# Altium footprint library PCBLib.PcbLib: 5 footprints
Each footprint in its own frame and in the unit in brackets; x right, y up, seen from the top. Pads: shape width x height; smd on the part's side, far side on the other; paste and mask are expansions set on the pad; w line width, h text height; cw(c..) or ccw(c..) is an arc to the next point about the centre after c.
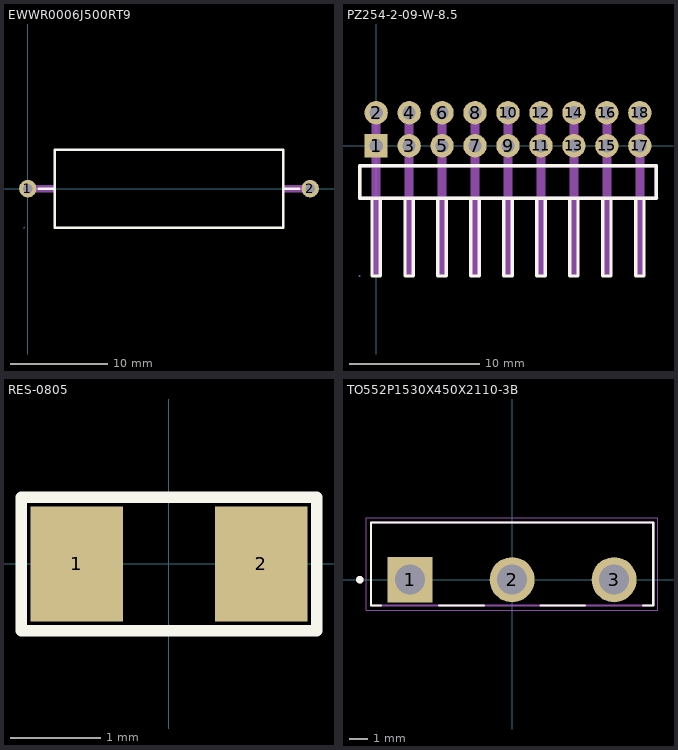
[diagram p0: the footprints below, top view; thin cyan lines are the x and y axes]

## 0447690401 [mm]

## EWWR0006J500RT9 [mm]
pads (2):
  round 1.8 hole 1 paste+0 mask+0.051: 1(0,0) 2(29,0)
Top Overlay:
  lines w0.254: 1.131,0 2.75,0 ; 2.75,4 2.75,-4 26.25,-4 26.25,4 2.785,4 ; 26.25,0 27.869,0
Mechanical 15:
  region: -0.315,-4 -0.316,-3.976 -0.351,-3.942 -0.399,-3.942 -0.434,-3.976 -0.435,-4 -0.434,-4.024 -0.399,-4.058 -0.351,-4.058 -0.316,-4.024 -0.315,-4
  region: 29.375,0 29.375,0.074 29.317,0.211 29.212,0.315 29.074,0.372 28.926,0.372 28.789,0.315 28.684,0.211 28.626,0.074 28.625,0 28.626,-0.074 28.684,-0.211 28.789,-0.315 28.926,-0.372 29.075,-0.372 29.212,-0.315 29.317,-0.211 29.375,-0.074 29.375,0
  region: 0.375,0 0.374,0.074 0.317,0.211 0.211,0.315 0.074,0.372 -0.074,0.372 -0.211,0.315 -0.317,0.211 -0.374,0.074 -0.375,0 -0.374,-0.074 -0.317,-0.211 -0.211,-0.315 -0.074,-0.372 0.074,-0.372 0.212,-0.315 0.317,-0.211 0.374,-0.074 0.375,0
  region: 29.375,0.375 29.375,-0.37 29.38,-0.375 26.245,-0.375 26.245,0.38
  region: -0.375,0.375 -0.375,-0.375 2.755,-0.375 2.755,0.38
  lines w0.051: 2.75,-4 2.75,4 26.25,4 26.25,-4 2.75,-4

## PZ254-2-09-W-8.5 [mm]
pads (18):
  rect 1.778x1.8 hole 1.02 paste+0 mask+0.051: 1(0,0)
  round 1.8 hole 1.02 paste+0 mask+0.051: 2(0,2.54) 3(2.54,0) 4(2.54,2.54) 5(5.08,0) 6(5.08,2.54) 7(7.62,0) 8(7.62,2.54) 9(10.16,0) 10(10.16,2.54) 11(12.7,0) 12(12.7,2.54) 13(15.24,0) 14(15.24,2.54) 15(17.78,0) 16(17.78,2.54) 17(20.32,0) 18(20.32,2.54)
Top Overlay:
  lines w0.254: -1.27,-1.56 -1.27,-4.04 21.59,-4.04 21.59,-1.54 -1.27,-1.54 ; -0.322,-4.04 -0.322,-10.04 0.32,-10.04 0.32,-4.04 ; 2.218,-4.04 2.218,-10.04 2.86,-10.04 2.86,-4.04 ; 4.758,-4.04 4.758,-10.04 5.4,-10.04 5.4,-4.04 ; 7.298,-4.04 7.298,-10.04 7.94,-10.04 7.94,-4.04 ; 9.838,-4.04 9.838,-10.04 10.48,-10.04 10.48,-4.04 ; 12.378,-4.04 12.378,-10.04 13.02,-10.04 13.02,-4.04 ; 14.918,-4.04 14.918,-10.04 15.56,-10.04 15.56,-4.04 ; 17.458,-4.04 17.458,-10.04 18.1,-10.04 18.1,-4.04 ; 19.998,-4.04 19.998,-10.04 20.64,-10.04 20.64,-4.04
Mechanical 6:
  region: -1.143,-1.54 -1.143,-3.913 21.59,-3.913 21.643,-3.913 21.717,-3.987 21.717,-4.093 21.643,-4.167 21.59,-4.167 -1.27,-4.167 -1.295,-4.167 -1.342,-4.148 -1.378,-4.112 -1.397,-4.065 -1.397,-4.04 -1.397,-1.54 -1.397,-1.487 -1.323,-1.413 -1.217,-1.413 -1.143,-1.487
  region: 21.463,-4.04 21.463,-1.667 -1.27,-1.667 -1.323,-1.667 -1.397,-1.593 -1.397,-1.487 -1.323,-1.413 -1.27,-1.413 21.59,-1.413 21.615,-1.413 21.662,-1.432 21.697,-1.468 21.717,-1.515 21.717,-1.54 21.717,-4.04 21.717,-4.093 21.642,-4.167 21.537,-4.167 21.463,-4.093
Mechanical 15:
  region: -1.21,-10.04 -1.21,-10.015 -1.245,-9.98 -1.295,-9.98 -1.33,-10.015 -1.33,-10.04 -1.33,-10.065 -1.295,-10.1 -1.245,-10.1 -1.21,-10.065
  region: 20.64,2.22 20,2.22 20,2.86 20.64,2.86
  region: 20.64,-0.32 20,-0.32 20,0.32 20.64,0.32
  region: 18.1,2.22 17.46,2.22 17.46,2.86 18.1,2.86
  region: 18.1,-0.32 17.46,-0.32 17.46,0.32 18.1,0.32
  region: 15.56,2.22 14.92,2.22 14.92,2.86 15.56,2.86
  region: 15.56,-0.32 14.92,-0.32 14.92,0.32 15.56,0.32
  region: 13.02,2.22 12.38,2.22 12.38,2.86 13.02,2.86
  region: 13.02,-0.32 12.38,-0.32 12.38,0.32 13.02,0.32
  region: 10.48,2.22 9.84,2.22 9.84,2.86 10.48,2.86
  region: 10.48,-0.32 9.84,-0.32 9.84,0.32 10.48,0.32
  region: 7.94,2.22 7.3,2.22 7.3,2.86 7.94,2.86
  region: 7.94,-0.32 7.3,-0.32 7.3,0.32 7.94,0.32
  region: 5.4,2.22 4.76,2.22 4.76,2.86 5.4,2.86
  region: 5.4,-0.32 4.76,-0.32 4.76,0.32 5.4,0.32
  region: 2.86,2.22 2.22,2.22 2.22,2.86 2.86,2.86
  region: 2.86,-0.32 2.22,-0.32 2.22,0.32 2.86,0.32
  region: 0.32,2.22 -0.32,2.22 -0.32,2.86 0.32,2.86
  region: 0.32,-0.32 -0.32,-0.32 -0.32,0.32 0.32,0.32
  region: 9.84,2.86 10.48,2.86 10.48,-10.04 9.84,-10.04
  region: 12.38,2.86 13.02,2.86 13.02,-10.04 12.38,-10.04
  region: 14.92,2.86 15.56,2.86 15.56,-10.04 14.92,-10.04
  region: 17.46,2.86 18.1,2.86 18.1,-10.04 17.46,-10.04
  region: 20,2.86 20.64,2.86 20.64,-10.04 20,-10.04
  region: 7.3,2.86 7.94,2.86 7.94,-10.04 7.3,-10.04
  region: 4.76,2.86 5.4,2.86 5.4,-10.04 4.76,-10.04
  region: 2.22,2.86 2.86,2.86 2.86,-10.04 2.22,-10.04
  region: -0.32,2.86 0.32,2.86 0.32,-10.04 -0.32,-10.04
  lines w0.051: -1.27,-4.04 21.59,-4.04 21.59,-1.54 -1.27,-1.54 -1.27,-4.04

## RES-0805 [mil] "SMD 0805"
pads (2):
  rect 40x50 smd: 1(-40,0) 2(40,0)
Top Overlay:
  lines w5: -64,-29 64,-29 64,29 -64,29 -64,-29
3D body "User Library-CR2012-0805.STEP": height 23.62, standoff 0, extent -39.34,-24.75 39.4,24.46

## TO552P1530X450X2110-3B [mm]
pads (3):
  rect 2.445x2.445 / inner round 2.445 / far side rect 2.445x2.445 hole 1.63: 1(-5.525,0)
  round 2.445 hole 1.63: 2(0,0) 3(5.525,0)
Top Overlay:
  circle w0.2: c-8.25,0 r0.1
  lines w0.127: -7.1,-1.4 -7.65,-1.4 -7.65,3.1 7.65,3.1 7.65,-1.4 7.1,-1.4 ; -3.95,-1.4 -1.536,-1.4 ; 1.536,-1.4 3.95,-1.4
Mechanical 13:
  circle w0.2: c-8.25,0 r0.1
  lines w0.127: -7.65,-1.4 7.65,-1.4 7.65,3.1 -7.65,3.1 -7.65,-1.4
Mechanical 15:
  lines w0.05: -7.9,-1.65 7.9,-1.65 7.9,3.35 -7.9,3.35 -7.9,-1.65
3D body "step_temp.STEP": height 21.1, standoff -15.6, extent -7.65,-1.4 7.65,3.1